# Altium footprint library Choke_THT.PcbLib: 1 footprints
Each footprint in its own frame and in the unit in brackets; x right, y up, seen from the top. Pads: shape width x height; smd on the part's side, far side on the other; paste and mask are expansions set on the pad; w line width, h text height; cw(c..) or ccw(c..) is an arc to the next point about the centre after c.
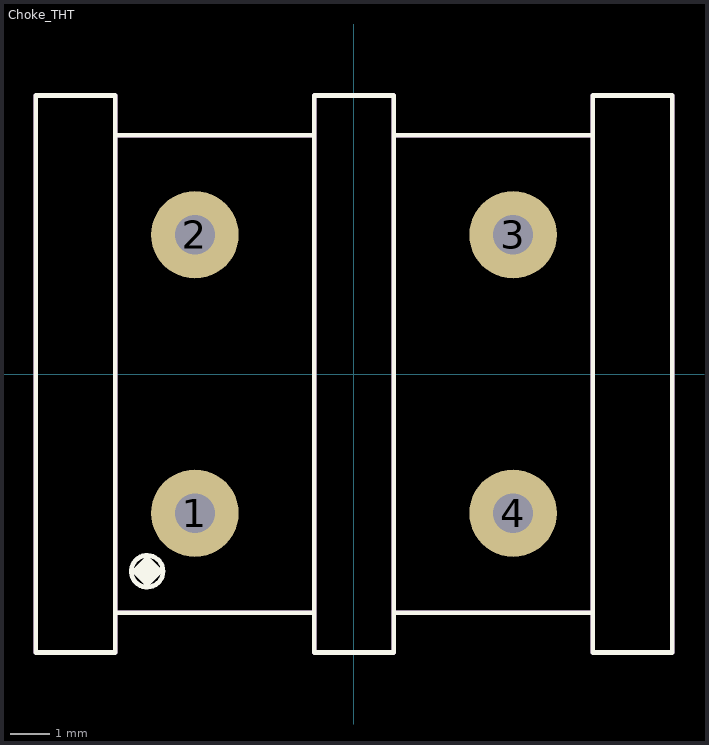
[diagram p0: the footprint, top view; thin cyan lines are the x and y axes]

## Choke_THT [mm] "Choke_THT"
pads (4):
  round 2.2 hole 1 paste-2.2 mask+0: 1(-4,-3.5) 2(-4,3.5) 3(4,3.5) 4(4,-3.5)
Top Overlay:
  circle w0.12: c-5.2,-4.96 r0.4
  region: -5.2,-5.36 -5.6,-4.96 -5.2,-4.56 -4.8,-4.96
  lines w0.12: -6,-6 -1,-6 ; -6,6 -1,6 ; 1,-6 6,-6 ; 1,6 6,6 ; -8,-7 -8,7 -6,7 -6,-7 -8,-7 ; -1,-7 1,-7 1,7 -1,7 -1,-7 ; 6,-7 8,-7 8,7 6,7 6,-7
Mechanical 1:
  lines w0.12: -6,-6 -1,-6 ; -6,6 -1,6 ; 1,-6 6,-6 ; 1,6 6,6 ; -8,-7 -8,7 -6,7 -6,-7 -8,-7 ; -1,-7 1,-7 1,7 -1,7 -1,-7 ; 6,-7 8,-7 8,7 6,7 6,-7
  text ".Designator" at 0,0.565 h3
Mechanical 15:
  text "+" at -0.666,-1 h2
3D body "UU TYPE line choke.stp": height 16.03, standoff -2.72, extent -7.849,-5.3 7.849,5.3